# Altium footprint library SOIC254P1016X440-4N.PcbLib: 2 footprints
Each footprint in its own frame and in the unit in brackets; x right, y up, seen from the top. Pads: shape width x height; smd on the part's side, far side on the other; paste and mask are expansions set on the pad; w line width, h text height; cw(c..) or ccw(c..) is an arc to the next point about the centre after c.
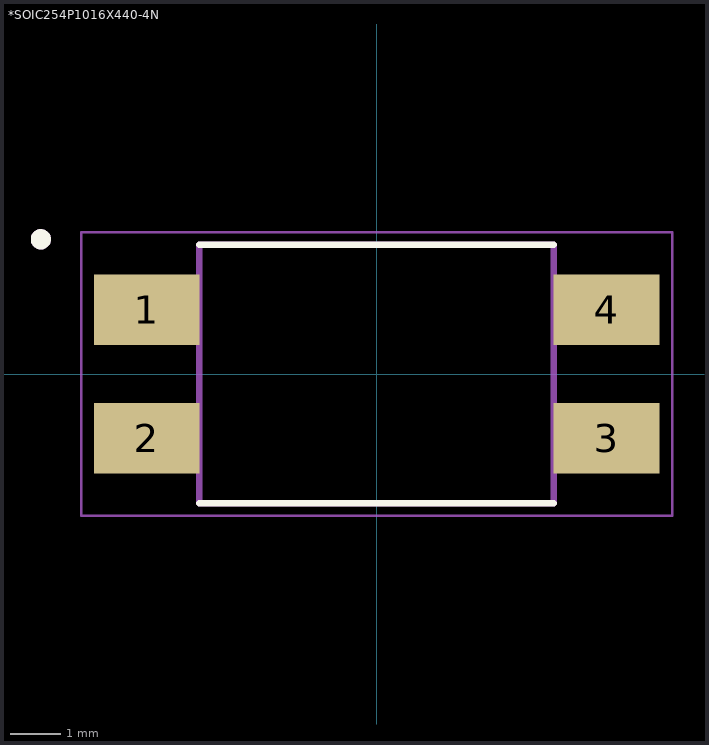
[diagram p0: the footprints below, top view; thin cyan lines are the x and y axes]

## *SOIC254P1016X440-4N [mm]
pads (4):
  rect 2.09x1.39 smd: 1(-4.54,1.27) 2(-4.54,-1.27) 3(4.54,-1.27) 4(4.54,1.27)
Top Overlay:
  circle w0.2: c-6.63,2.66 r0.1
  lines w0.127: -3.5,-2.55 3.5,-2.55 ; -3.5,2.55 3.5,2.55
Mechanical 4:
  circle w0.2: c-6.63,2.66 r0.1
  circle w0.2: c-6.63,2.66 r0.1
  lines w0.127: -3.5,-2.55 -3.5,2.55 ; -3.5,-2.55 3.5,-2.55 ; -3.5,-2.55 -3.5,2.55 ; -3.5,-2.55 3.5,-2.55 ; -3.5,2.55 3.5,2.55 ; -3.5,2.55 3.5,2.55 ; 3.5,-2.55 3.5,2.55 ; 3.5,-2.55 3.5,2.55
Mechanical 16:
  lines w0.05: -5.835,-2.8 -5.835,2.8 5.835,2.8 5.835,-2.8 -5.835,-2.8

## PCBComponent_1 [mil]